# Altium schematic symbol library ESP8266 MOLDUL.SchLib: 1 symbol
Pins are listed as number, name and electrical type; pins without a type are passive.

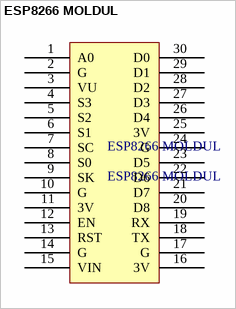
[diagram p0: symbol ESP8266 MOLDUL]

## ESP8266 MOLDUL
designator ESP8266 MOLDUL
footprint ESP8266 MOLDUL
pins: 1 A0, 2 G, 3 VU, 4 S3, 5 S2, 6 S1, 7 SC, 8 S0, 9 SK, 10 G, 11 3V, 12 EN, 13 RST, 14 G, 15 VIN, 16 3V, 17 G, 18 TX, 19 RX, 20 D8, 21 D7, 22 D6, 23 D5, 24 G, 25 3V, 26 D4, 27 D3, 28 D2, 29 D1, 30 D0